# Altium schematic symbol library bluetooth_serial.SchLib: 1 symbol
Pins are listed as number, name and electrical type; pins without a type are passive.

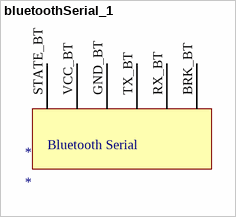
[diagram p0: symbol bluetoothSerial_1]

## bluetoothSerial_1
designator *
footprint bluetoothSerial_header
pins: BRK_BT, GND_BT, RX_BT, STATE_BT, TX_BT, VCC_BT
text: Bluetooth Serial